# Altium footprint library SparkFun-Connectors.PCBLIB: 310 footprints (part 5 of 20)
Each footprint in its own frame and in the unit in brackets; x right, y up, seen from the top. Pads: shape width x height; smd on the part's side, far side on the other; paste and mask are expansions set on the pad; w line width, h text height; cw(c..) or ccw(c..) is an arc to the next point about the centre after c.
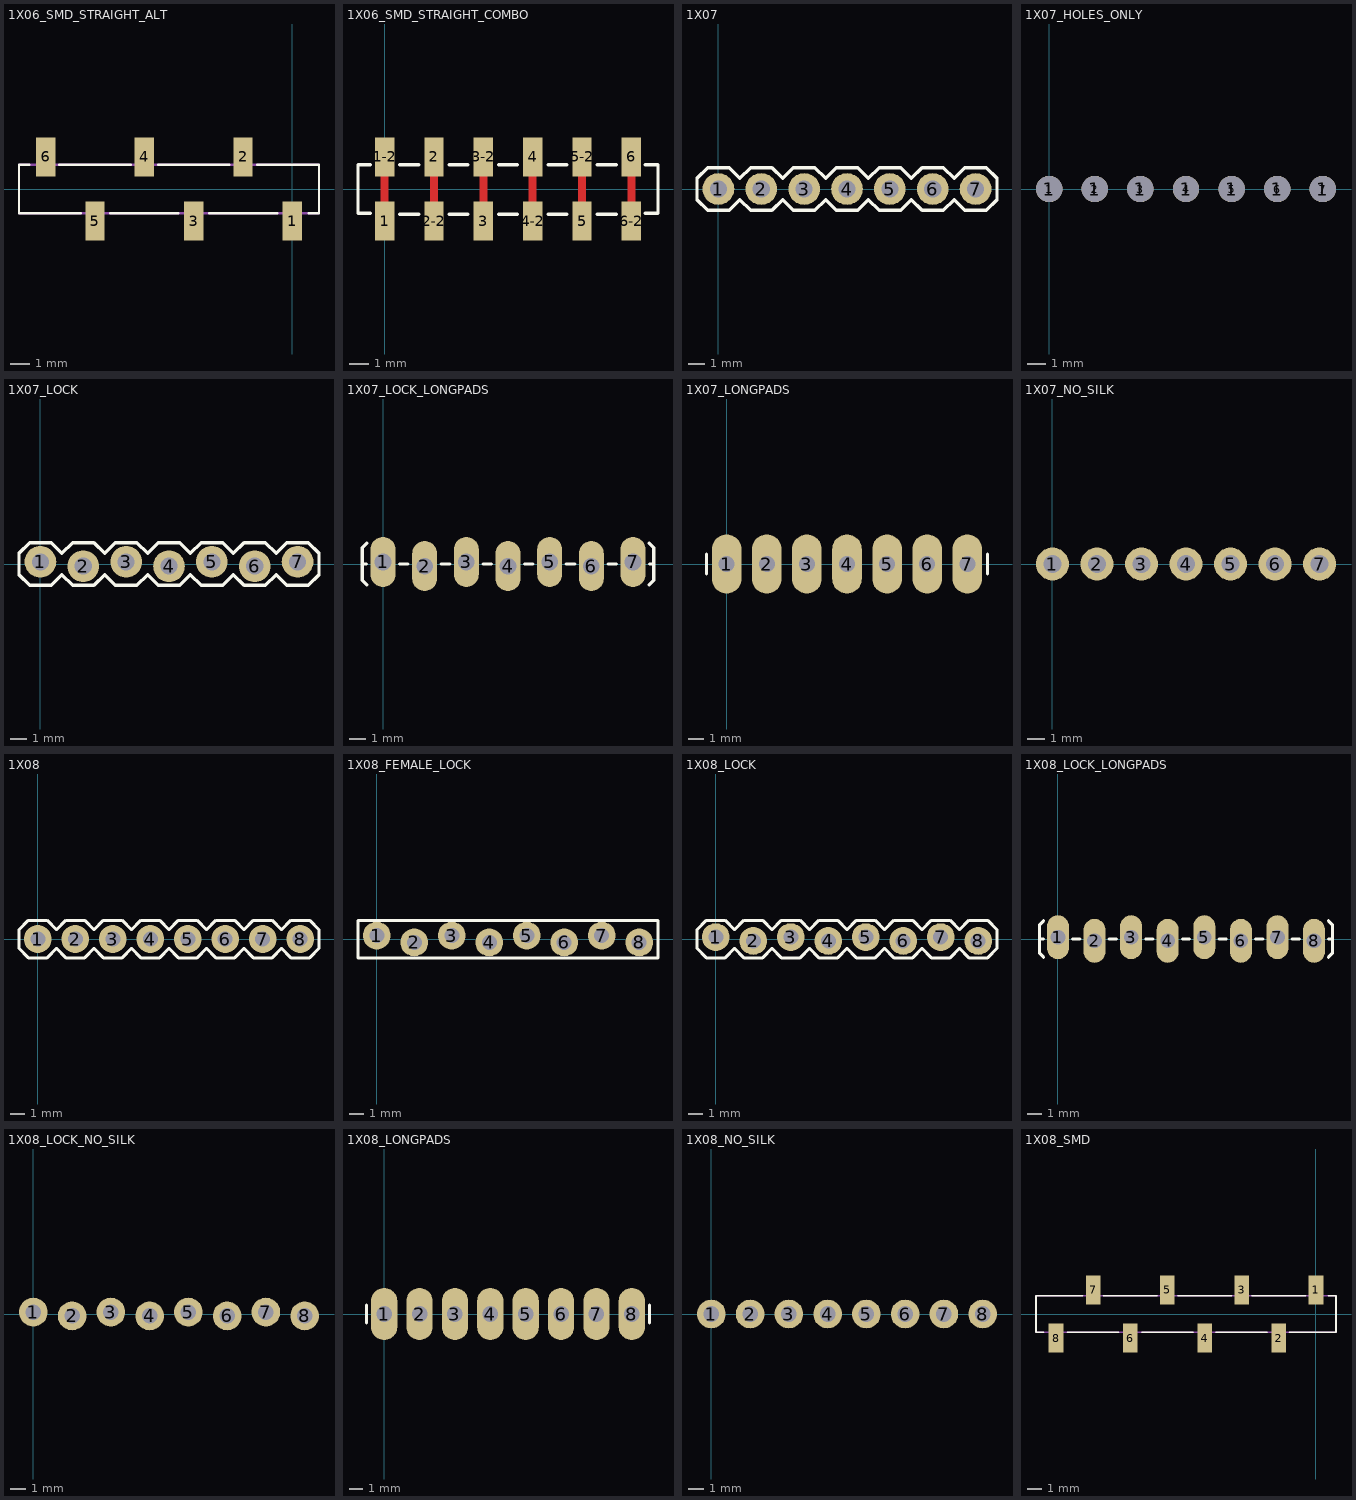
[diagram p4: the footprints below, top view; thin cyan lines are the x and y axes]

## 1X06_SMD_STRAIGHT_ALT [mm]
pads (6):
  rect 1x2 smd: 1(0,-1.65) 2(-2.54,1.65) 3(-5.08,-1.65) 4(-7.62,1.65) 5(-10.16,-1.65) 6(-12.7,1.65)
Top Overlay:
  lines w0.127: -13.55,1.25 -14.07,1.25 -14.07,-1.25 -10.883,-1.25 ; -11.997,1.25 -8.323,1.25 ; -9.371,-1.25 -5.869,-1.25 ; -6.917,1.25 -3.243,1.25 ; -4.291,-1.25 -0.789,-1.25 ; -1.817,1.25 1.37,1.25 1.37,-1.25 0.85,-1.25
Mechanical 16:
  lines w0.127: -14.07,-1.25 -14.07,1.25 1.37,1.25 1.37,-1.25 -14.07,-1.25

## 1X06_SMD_STRAIGHT_COMBO [mm]
pads (12):
  rect 1x2 smd: 1(0,-1.65) 1-2(0,1.65) 2(2.54,1.65) 2-2(2.54,-1.65) 3(5.08,-1.65) 3-2(5.08,1.65) 4(7.62,1.65) 4-2(7.62,-1.65) 5(10.16,-1.65) 5-2(10.16,1.65) 6(12.7,1.65) 6-2(12.7,-1.65)
Top Layer:
  lines w0.406: 0,-1.27 0,1.27 ; 2.54,-1.27 2.54,1.27 ; 5.08,-1.27 5.08,1.27 ; 7.62,-1.27 7.62,1.27 ; 10.16,-1.27 10.16,1.27 ; 12.7,-1.27 12.7,1.27
Top Overlay:
  lines w0.178: -0.73,-1.25 -1.37,-1.25 -1.37,1.25 -0.73,1.25 ; 0.789,-1.29 1.751,-1.29 ; 0.789,1.25 1.751,1.25 ; 3.329,-1.29 4.291,-1.29 ; 3.329,1.25 4.291,1.25 ; 5.869,-1.29 6.831,-1.29 ; 5.869,1.25 6.831,1.25 ; 8.409,-1.29 9.371,-1.29 ; 8.409,1.25 9.371,1.25 ; 10.949,-1.29 11.911,-1.29 ; 10.949,1.25 11.911,1.25 ; 13.4,-1.25 14.07,-1.25 14.07,1.25 13.4,1.25

## 1X07 [mil]
pads (7):
  round 74 hole 40: 1(0,0) 2(100,0) 3(200,0) 4(300,0) 5(400,0) 6(500,0) 7(600,0)
Top Overlay:
  lines w8: -50,-25 -50,25 -25,50 25,50 50,25 75,50 125,50 150,25 175,50 225,50 250,25 275,50 325,50 350,25 375,50 425,50 450,25 475,50 525,50 550,25 575,50 625,50 650,25 650,-25 625,-50 575,-50 550,-25 525,-50 475,-50 450,-25 425,-50 375,-50 350,-25 325,-50 275,-50 250,-25 225,-50 175,-50 150,-25 125,-50 75,-50 50,-25 25,-50 -25,-50 -50,-25
Mechanical 16:
  rectangle: 590,-10 610,10
  rectangle: 490,-10 510,10
  rectangle: 390,-10 410,10
  rectangle: 290,-10 310,10
  rectangle: 190,-10 210,10
  rectangle: 90,-10 110,10
  rectangle: -10,-10 10,10

## 1X07_HOLES_ONLY [mil]
pads (14):
  round 32 hole 35: 1(0,0) 2(100,0) 3(200,0) 4(300,0) 5(400,0) 6(500,0) 7(600,0)
  round 58 hole 58: 1(0,0) 1(100,0) 1(200,0) 1(300,0) 1(400,0) 1(500,0) 1(600,0)
Mechanical 16:
  circle w5: c0,0 r25
  circle w5: c100,0 r25
  circle w5: c200,0 r25
  circle w5: c300,0 r25
  circle w5: c400,0 r25
  circle w5: c500,0 r25
  circle w5: c600,0 r25

## 1X07_LOCK [mil]
pads (7):
  round 74 hole 40: 1(0,5) 2(100,-5) 3(200,5) 4(300,-5) 5(400,5) 6(500,-5) 7(600,5)
Top Overlay:
  lines w8: -50,-25 -50,25 -25,50 25,50 50,25 75,50 125,50 150,25 175,50 225,50 250,25 275,50 325,50 350,25 375,50 425,50 450,25 475,50 525,50 550,25 575,50 625,50 650,25 650,-25 625,-50 575,-50 550,-25 525,-50 475,-50 450,-25 425,-50 375,-50 350,-25 325,-50 275,-50 250,-25 225,-50 175,-50 150,-25 125,-50 75,-50 50,-25 25,-50 -25,-50 -50,-25
Mechanical 16:
  rectangle: 590,-10 610,10
  rectangle: 490,-10 510,10
  rectangle: 390,-10 410,10
  rectangle: 290,-10 310,10
  rectangle: 190,-10 210,10
  rectangle: 90,-10 110,10
  rectangle: -10,-10 10,10

## 1X07_LOCK_LONGPADS [mil]
pads (7):
  oval 60x120 hole 40: 1(0,5) 2(100,-5) 3(200,5) 4(300,-5) 5(400,5) 6(500,-5) 7(600,5)
Top Overlay:
  lines w8: -40,0 -50,0 ; -39,-50 -50,-39 -50,0 ; -39,50 -50,39 -50,0 ; 40,0 60,0 ; 140,0 160,0 ; 240,0 260,0 ; 340,0 360,0 ; 440,0 460,0 ; 540,0 560,0 ; 639,-50 650,-39 650,0 ; 639,50 650,39 650,0 ; 640,0 650,0
Mechanical 16:
  rectangle: -11.5,-11.5 11.5,11.5
  rectangle: 88.5,-11.5 111.5,11.5
  rectangle: 188.5,-11.5 211.5,11.5
  region: 311.5,-11.5 311.5,11.5 288.5,11.5 288.5,-11.5
  rectangle: 388.5,-11.5 411.5,11.5
  rectangle: 488.5,-11.5 511.5,11.5
  rectangle: 588.5,-11.5 611.5,11.5

## 1X07_LONGPADS [mil]
pads (7):
  oval 74x148 hole 40: 1(0,0) 2(100,0) 3(200,0) 4(300,0) 5(400,0) 6(500,0) 7(600,0)
Top Overlay:
  lines w8: -50,-25 -50,25 ; 650,-25 650,25
Mechanical 16:
  rectangle: 590,-10 610,10
  rectangle: 490,-10 510,10
  rectangle: 390,-10 410,10
  rectangle: 290,-10 310,10
  rectangle: 190,-10 210,10
  rectangle: 90,-10 110,10
  rectangle: -10,-10 10,10

## 1X07_NO_SILK [mil]
pads (7):
  round 74 hole 40: 1(0,0) 2(100,0) 3(200,0) 4(300,0) 5(400,0) 6(500,0) 7(600,0)
Mechanical 16:
  rectangle: 590,-10 610,10
  rectangle: 490,-10 510,10
  rectangle: 390,-10 410,10
  rectangle: 290,-10 310,10
  rectangle: 190,-10 210,10
  rectangle: 90,-10 110,10
  rectangle: -10,-10 10,10

## 1X08 [mil]
pads (8):
  round 74 hole 40: 1(0,0) 2(100,0) 3(200,0) 4(300,0) 5(400,0) 6(500,0) 7(600,0) 8(700,0)
Top Overlay:
  lines w8: -50,-25 -50,25 -25,50 25,50 50,25 75,50 125,50 150,25 175,50 225,50 250,25 275,50 325,50 350,25 375,50 425,50 450,25 475,50 525,50 550,25 575,50 625,50 650,25 675,50 725,50 750,25 750,-25 725,-50 675,-50 650,-25 625,-50 575,-50 550,-25 525,-50 475,-50 450,-25 425,-50 375,-50 350,-25 325,-50 275,-50 250,-25 225,-50 175,-50 150,-25 125,-50 75,-50 50,-25 25,-50 -25,-50 -50,-25
Mechanical 16:
  rectangle: 590,-10 610,10
  rectangle: 490,-10 510,10
  rectangle: 390,-10 410,10
  rectangle: 290,-10 310,10
  rectangle: 190,-10 210,10
  rectangle: 90,-10 110,10
  rectangle: -10,-10 10,10
  rectangle: 690,-10 710,10

## 1X08_FEMALE_LOCK [mil]
pads (8):
  round 74 hole 40: 1(0,9) 2(100,-9) 3(200,9) 4(300,-9) 5(400,9) 6(500,-9) 7(600,9) 8(700,-9)
Top Overlay:
  lines w8: -50,-50 -50,50 750,50 750,-50 -50,-50
Mechanical 16:
  rectangle: -12.5,-7.5 12.5,7.5
  rectangle: 87.5,-7.5 112.5,7.5
  rectangle: 187.5,-7.5 212.5,7.5
  rectangle: 287.5,-7.5 312.5,7.5
  rectangle: 387.5,-7.5 412.5,7.5
  rectangle: 487.5,-7.5 512.5,7.5
  rectangle: 587.5,-7.5 612.5,7.5
  rectangle: 687.5,-7.5 712.5,7.5

## 1X08_LOCK [mil]
pads (8):
  round 74 hole 40: 1(0,5) 2(100,-5) 3(200,5) 4(300,-5) 5(400,5) 6(500,-5) 7(600,5) 8(700,-5)
Top Overlay:
  lines w8: -50,-25 -50,25 -25,50 25,50 50,25 75,50 125,50 150,25 175,50 225,50 250,25 275,50 325,50 350,25 375,50 425,50 450,25 475,50 525,50 550,25 575,50 625,50 650,25 675,50 725,50 750,25 750,-25 725,-50 675,-50 650,-25 625,-50 575,-50 550,-25 525,-50 475,-50 450,-25 425,-50 375,-50 350,-25 325,-50 275,-50 250,-25 225,-50 175,-50 150,-25 125,-50 75,-50 50,-25 25,-50 -25,-50 -50,-25
Mechanical 16:
  rectangle: 590,-10 610,10
  rectangle: 490,-10 510,10
  rectangle: 390,-10 410,10
  rectangle: 290,-10 310,10
  rectangle: 190,-10 210,10
  rectangle: 90,-10 110,10
  rectangle: -10,-10 10,10
  rectangle: 690,-10 710,10

## 1X08_LOCK_LONGPADS [mil]
pads (8):
  oval 60x120 hole 40: 1(0,5) 2(100,-5) 3(200,5) 4(300,-5) 5(400,5) 6(500,-5) 7(600,5) 8(700,-5)
Top Overlay:
  lines w8: -40,0 -50,0 ; -39,-50 -50,-39 -50,0 ; -39,50 -50,39 -50,0 ; 40,0 60,0 ; 140,0 160,0 ; 240,0 260,0 ; 340,0 360,0 ; 440,0 460,0 ; 540,0 560,0 ; 640,0 660,0 ; 739,-50 750,-39 750,0 ; 739,50 750,39 750,0 ; 740,0 750,0
Mechanical 16:
  rectangle: -11.5,-11.5 11.5,11.5
  rectangle: 88.5,-11.5 111.5,11.5
  rectangle: 188.5,-11.5 211.5,11.5
  region: 311.5,-11.5 311.5,11.5 288.5,11.5 288.5,-11.5
  rectangle: 388.5,-11.5 411.5,11.5
  rectangle: 488.5,-11.5 511.5,11.5
  rectangle: 588.5,-11.5 611.5,11.5
  rectangle: 688.5,-11.5 711.5,11.5

## 1X08_LOCK_NO_SILK [mil]
pads (8):
  round 74 hole 40: 1(0,5) 2(100,-5) 3(200,5) 4(300,-5) 5(400,5) 6(500,-5) 7(600,5) 8(700,-5)
Mechanical 16:
  rectangle: 590,-10 610,10
  rectangle: 490,-10 510,10
  rectangle: 390,-10 410,10
  rectangle: 290,-10 310,10
  rectangle: 190,-10 210,10
  rectangle: 90,-10 110,10
  rectangle: -10,-10 10,10
  rectangle: 690,-10 710,10

## 1X08_LONGPADS [mil]
pads (8):
  oval 74x148 hole 44: 1(0,0) 2(100,0) 3(200,0) 4(300,0) 5(400,0) 6(500,0) 7(600,0) 8(700,0)
Top Overlay:
  lines w8: -50,-25 -50,25 ; 750,-25 750,25
Mechanical 16:
  rectangle: 590,-10 610,10
  rectangle: 490,-10 510,10
  rectangle: 390,-10 410,10
  rectangle: 290,-10 310,10
  rectangle: 190,-10 210,10
  rectangle: 90,-10 110,10
  rectangle: -10,-10 10,10
  rectangle: 690,-10 710,10

## 1X08_NO_SILK [mil]
pads (8):
  round 74 hole 40: 1(0,0) 2(100,0) 3(200,0) 4(300,0) 5(400,0) 6(500,0) 7(600,0) 8(700,0)
Mechanical 16:
  rectangle: 590,-10 610,10
  rectangle: 490,-10 510,10
  rectangle: 390,-10 410,10
  rectangle: 290,-10 310,10
  rectangle: 190,-10 210,10
  rectangle: 90,-10 110,10
  rectangle: -10,-10 10,10
  rectangle: 690,-10 710,10

## 1X08_SMD [mm]
pads (8):
  rect 1x2 smd: 1(0,1.65) 2(-2.54,-1.65) 3(-5.08,1.65) 4(-7.62,-1.65) 5(-10.16,1.65) 6(-12.7,-1.65) 7(-15.24,1.65) 8(-17.78,-1.65)
Top Overlay:
  lines w0.127: -18.63,-1.25 -19.15,-1.25 -19.15,1.25 -15.963,1.25 ; -16.991,-1.25 -13.489,-1.25 ; -14.537,1.25 -10.863,1.25 ; -11.911,-1.25 -8.409,-1.25 ; -9.457,1.25 -5.783,1.25 ; -6.831,-1.25 -3.329,-1.25 ; -4.377,1.25 -0.703,1.25 ; -1.817,-1.25 1.37,-1.25 1.37,1.25 0.85,1.25
Mechanical 16:
  lines w0.127: -19.15,-1.25 -19.15,1.25 1.37,1.25 1.37,-1.25 -19.15,-1.25